# Altium footprint library Alpha-1.PcbLib: 19 footprints (part 1 of 2)
Each footprint in its own frame and in the unit in brackets; x right, y up, seen from the top. Pads: shape width x height; smd on the part's side, far side on the other; paste and mask are expansions set on the pad; w line width, h text height; cw(c..) or ccw(c..) is an arc to the next point about the centre after c.
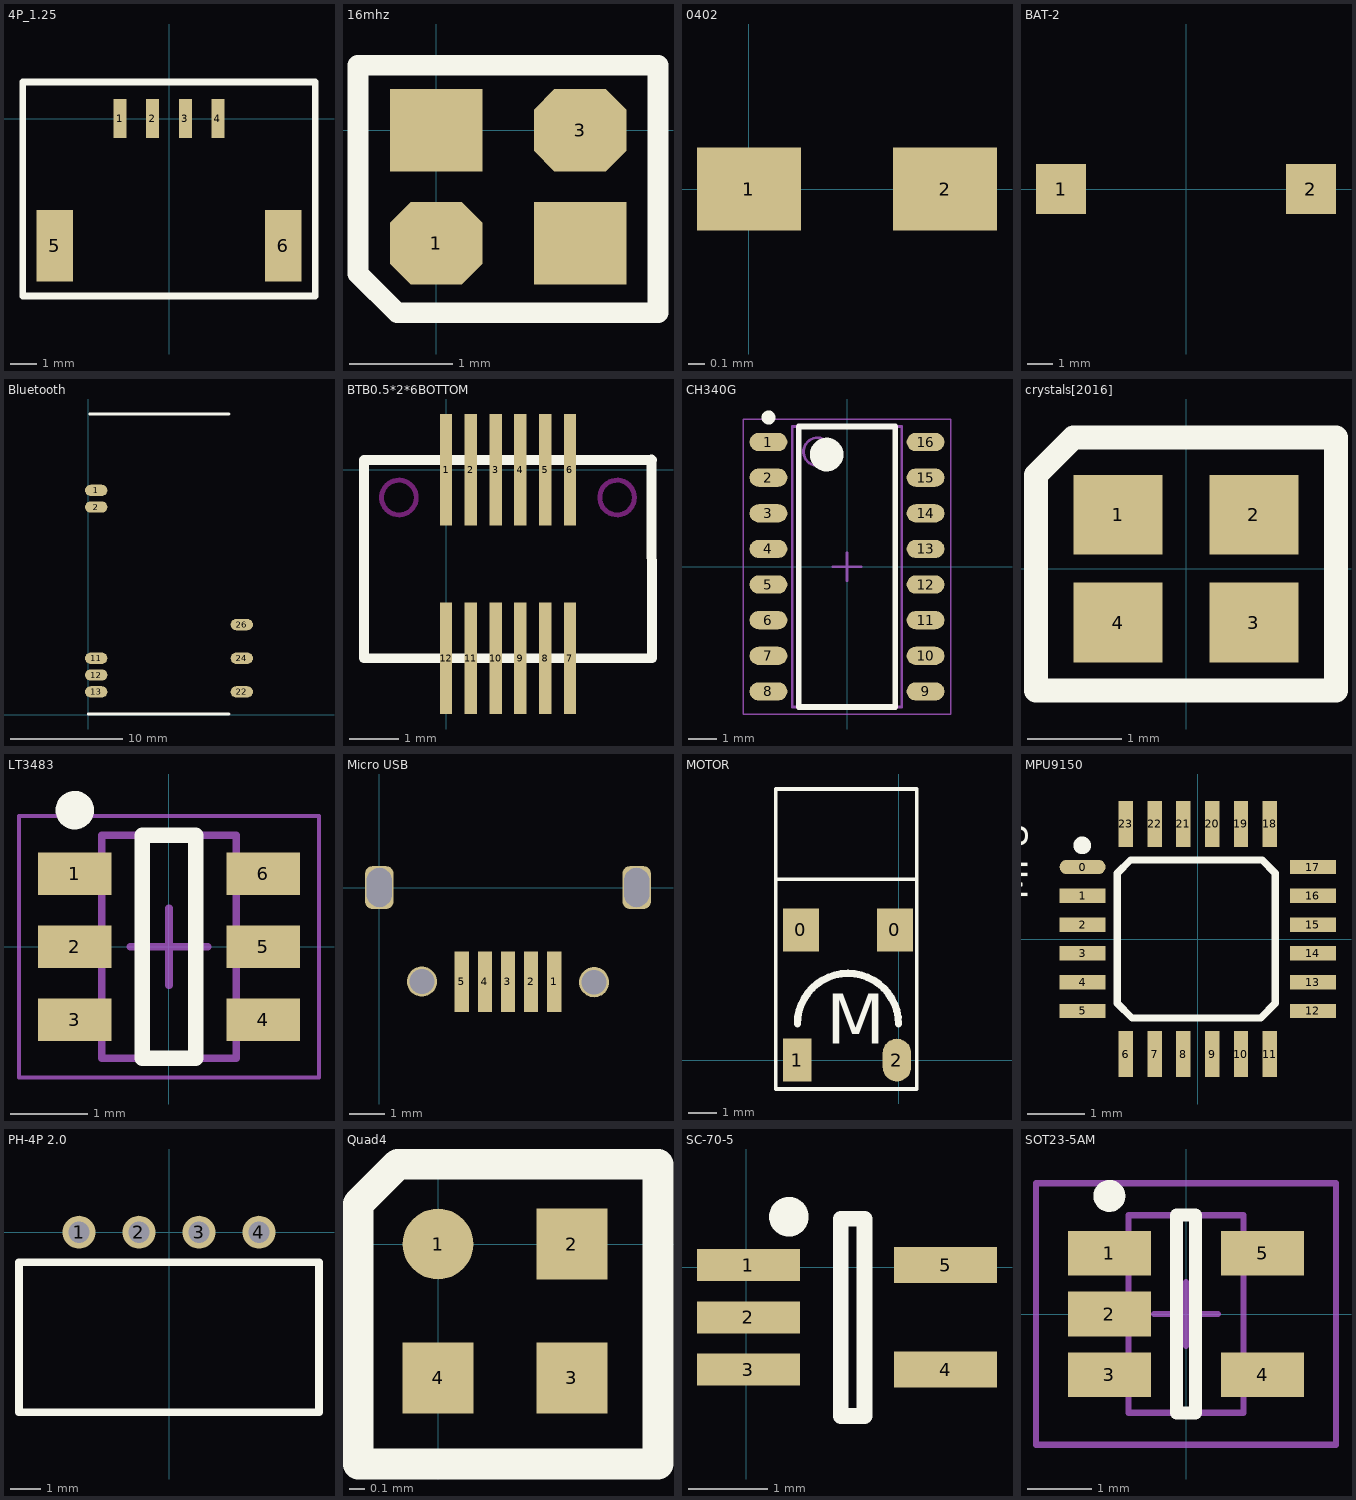
[diagram p0: the footprints below, top view; thin cyan lines are the x and y axes]

## 4P_1.25 [mm]
pads (6):
  rect 0.5x1.5 smd: 1(-1.875,0) 2(-0.625,0) 3(0.625,0) 4(1.875,0)
  rect 1.4x2.75 smd: 5(-4.375,-4.875) 6(4.375,-4.875)
Top Overlay:
  lines w0.254: -5.6,-6.8 5.6,-6.8 5.6,1.4 -5.6,1.4 -5.6,-6.8

## 16mhz [mm]
height 2
pads (4):
  oct 0.9x0.8 smd: 1(0,-1.1) 3(1.4,0)
  rect 0.9x0.8 smd: ""(0,0) ""(1.4,-1.1)
Top Overlay:
  lines w0.2: -0.762,-1.397 -0.762,0.635 2.159,0.635 2.159,-1.778 -0.381,-1.778 -0.762,-1.397

## 0402 [mil]
height 179.92
pads (2):
  rect 25x20 smd: 1(0,0) 2(47.24,0)

## BAT-2 [mm]
pads (2):
  rect 2x2 smd: 1(-5,0) 2(5,0)

## Bluetooth [mm]
height 4.57
pads (8):
  oval 2x1 smd: 1(0.723,20.049) 2(0.723,18.549) 11(0.723,5.049) 12(0.723,3.549) 13(0.723,2.049) 22(13.723,2.049) 24(13.723,5.049) 26(13.723,8.049)
Top Overlay:
  lines w0.254: 0.013,0.069 12.586,0.069 ; 0.14,26.866 12.586,26.866

## BTB0.5*2*6BOTTOM [mm]
pads (12):
  rect 0.25x2.25 smd: 1(0,0) 2(0.5,0) 3(1,0) 4(1.5,0) 5(2,0) 6(2.5,0) 7(2.5,-3.8) 8(2,-3.8) 9(1.5,-3.8) 10(1,-3.8) 11(0.5,-3.8) 12(0,-3.8)
Top Overlay:
  lines w0.2: 4.146,0.206 4.15,-3.8 -1.65,-3.8 -1.65,0.2 4.15,0.2
Keep-Out Layer:
  circle w0.1: c3.45,-0.56 r0.35
  circle w0.1: c-0.95,-0.56 r0.35

## CH340G [mm] "SOP-16"
height 1.8
pads (16):
  oval 1.35x0.65 smd: 1(-2.8,4.445) 2(-2.8,3.175) 3(-2.8,1.905) 4(-2.8,0.635) 5(-2.8,-0.635) 6(-2.8,-1.905) 7(-2.8,-3.175) 8(-2.8,-4.445) 9(2.8,-4.445) 10(2.8,-3.175) 11(2.8,-1.905) 12(2.8,-0.635) 13(2.8,0.635) 14(2.8,1.905) 15(2.8,3.175) 16(2.8,4.445)
Top Overlay:
  circle w0.25: c-2.8,5.32 r0.125
  circle w0.6: c-0.725,4 r0.3
  lines w0.2: -1.725,-5 -1.725,5 1.725,5 1.725,-5 -1.725,-5
Mechanical 13:
  circle w0.1: c-1.05,4.1 r0.5
  lines w0.1: -1.95,-5 -1.95,5 1.95,5 1.95,-5 -1.95,-5
Mechanical 15:
  lines w0.05: -3.7,-5.25 -3.7,5.25 3.7,5.25 3.7,-5.25 -3.7,-5.25
  lines w0.1: -0.5,0 0.5,0 ; 0,-0.5 0,0.5
3D body: height 1.8, standoff 0.2, extent -1.95,-5 1.95,5

## crystals[2016] [mm]
pads (4):
  rect 0.95x0.85 smd: 1(-0.725,0.575) 2(0.725,0.575) 3(0.725,-0.575) 4(-0.725,-0.575)
Top Overlay:
  lines w0.254: -1.6,-1.3 1.6,-1.3 1.6,1.4 -1.2,1.4 -1.6,1 -1.6,-1.3

## LT3483 [mm] "SOT23, 6-Leads, Body 2.90x2.80mm, Pitch 0.95mm, IPC Medium Density"
height 1
pads (6):
  rect 0.95x0.55 smd: 1(-1.225,0.95) 2(-1.225,0) 3(-1.225,-0.95) 4(1.225,-0.95) 5(1.225,0) 6(1.225,0.95)
Top Overlay:
  circle w0.25: c-1.225,1.775 r0.125
  lines w0.2: -0.35,-1.45 0.35,-1.45 0.35,1.45 -0.35,1.45 -0.35,-1.45
Mechanical 13:
  lines w0.1: -0.875,-1.45 -0.875,1.45 0.875,1.45 0.875,-1.45 -0.875,-1.45
Mechanical 15:
  lines w0.05: -1.95,-1.7 -1.95,1.7 1.95,1.7 1.95,-1.7 -1.95,-1.7
  lines w0.1: -0.5,0 0.5,0 ; 0,-0.5 0,0.5
3D body: height 1, standoff 0.05, extent -0.875,-1.45 0.875,1.45

## Micro USB [mm]
height 2
pads (9):
  rect 0.4x1.7 smd: 1(4.925,-2.65) 2(4.275,-2.65) 3(3.625,-2.65) 4(2.975,-2.65) 5(2.325,-2.65)
  rrect50% 0.8x1.2 hole 0.7 slot 1.1 at 90 deg: ""(0,0) ""(7.25,0)
  round 0.85 hole 0.7: ""(1.2,-2.65) ""(6.05,-2.667)

## MOTOR [mil]
pads (4):
  rect 50x60 smd: 0(-135,180) 0(-5,180)
  rect 39.37x59.06 smd: 1(-140,0)
  oval 39.37x59.06 smd: 2(-2.2,0)
Top Overlay:
  lines w5: -170,250 25,250 ; -170,-40 25,-40 25,375 -170,375 -170,-40
  lines w10: -140,50 cw(c-70,50) 0,50
  text "M" at -100,0 h118.11

## MPU9150 [mm] "MPU9150"
height 1.6
pads (24):
  oval 0.8x0.25 smd: 0(-2,1.25)
  rect 0.8x0.25 smd: 1(-2,0.75) 2(-2,0.25) 3(-2,-0.25) 4(-2,-0.75) 5(-2,-1.25) 12(2,-1.25) 13(2,-0.75) 14(2,-0.25) 15(2,0.25) 16(2,0.75) 17(2,1.25)
  rect 0.25x0.8 smd: 6(-1.25,-2) 7(-0.75,-2) 8(-0.25,-2) 9(0.25,-2) 10(0.75,-2) 11(1.25,-2) 18(1.25,2) 19(0.75,2) 20(0.25,2) 21(-0.25,2) 22(-0.75,2) 23(-1.25,2)
Top Overlay:
  circle w0.254: c-2.007,1.626 r0.025
  lines w0.127: -1.397,-1.118 -1.397,1.143 -1.168,1.372 1.118,1.372 1.346,1.143 1.346,-1.118 1.092,-1.372 -1.143,-1.372 -1.397,-1.118
  text "MPU" at -2.809,0.678 h0.76

## PH-4P 2.0 [mm]
pads (4):
  round 1.1 hole 0.7: 1(-3,0) 2(-1,0) 3(1,0) 4(3,0)
Top Overlay:
  lines w0.254: -5,-6 5,-6 5,-1 -5,-1 -5,-6

## Quad4 [mm]
height 2
pads (4):
  round 0.45 smd: 1(0,0)
  rect 0.45x0.45 smd: 2(0.85,0) 3(0.85,-0.85) 4(0,-0.85)
Top Overlay:
  lines w0.2: -0.508,-1.397 1.397,-1.397 1.397,0.508 -0.254,0.508 -0.508,0.254 -0.508,-1.397

## SC-70-5 [mil]
height 78.74
pads (5):
  rect 51.18x16 smd: 1(1,1) 2(1,-25) 3(1,-51)
  rect 51.18x18 smd: 4(99,-51) 5(99,1)
Top Overlay:
  circle w9.84: c21.08,25 r4.92
  lines w7.87: 46.85,-74 46.85,24 58.66,24 58.66,-74 46.85,-74

## SOT23-5AM [mm] "SOT23, 5-Leads, Body 2.9x1.7mm, Pitch 0.95mm, Lead Span 2.8mm, IPC Low Density"
height 1.45
pads (5):
  rect 1.3x0.7 smd: 1(-1.2,0.95) 2(-1.2,0) 3(-1.2,-0.95) 4(1.2,-0.95) 5(1.2,0.95)
Top Overlay:
  circle w0.25: c-1.2,1.85 r0.125
  lines w0.2: -0.15,-1.55 -0.15,1.55 0.15,1.55 0.15,-1.55 -0.15,-1.55
Mechanical 13:
  lines w0.1: -0.9,-1.55 0.9,-1.55 0.9,1.55 -0.9,1.55 -0.9,-1.55
Mechanical 15:
  lines w0.1: -0.5,0 0.5,0 ; 0,-0.5 0,0.5 ; -2.35,-2.05 2.35,-2.05 2.35,2.05 -2.35,2.05 -2.35,-2.05
3D body: height 1.45, standoff 0, extent -0.9,-1.55 0.9,1.55